# Altium footprint library motor.PcbLib: 1 footprints
Each footprint in its own frame and in the unit in brackets; x right, y up, seen from the top. Pads: shape width x height; smd on the part's side, far side on the other; paste and mask are expansions set on the pad; w line width, h text height; cw(c..) or ccw(c..) is an arc to the next point about the centre after c.
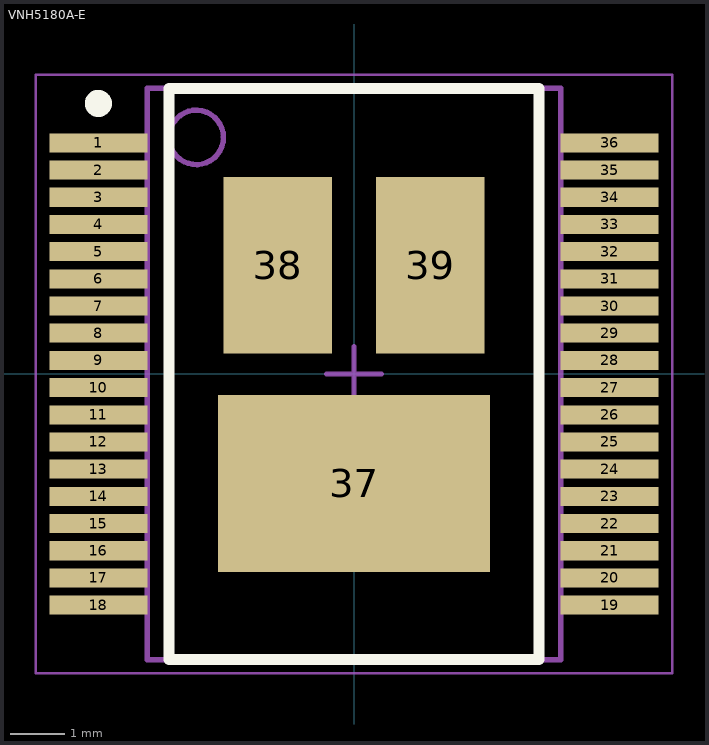
[diagram p0: the footprint, top view; thin cyan lines are the x and y axes]

## VNH5180A-E [mm] "SSOP, 36-Leads, Body 10.30x7.50mm, Pitch 0.50mm, Thermal Pad 7.40x5.20mm, IPC Medium Density"
height 2.47
pads (39):
  rect 1.8x0.35 smd: 1(-4.7,4.25) 2(-4.7,3.75) 3(-4.7,3.25) 4(-4.7,2.75) 5(-4.7,2.25) 6(-4.7,1.75) 7(-4.7,1.25) 8(-4.7,0.75) 9(-4.7,0.25) 10(-4.7,-0.25) 11(-4.7,-0.75) 12(-4.7,-1.25) 13(-4.7,-1.75) 14(-4.7,-2.25) 15(-4.7,-2.75) 16(-4.7,-3.25) 17(-4.7,-3.75) 18(-4.7,-4.25) 19(4.7,-4.25) 20(4.7,-3.75) 21(4.7,-3.25) 22(4.7,-2.75) 23(4.7,-2.25) 24(4.7,-1.75) 25(4.7,-1.25) 26(4.7,-0.75) 27(4.7,-0.25) 28(4.7,0.25) 29(4.7,0.75) 30(4.7,1.25) 31(4.7,1.75) 32(4.7,2.25) 33(4.7,2.75) 34(4.7,3.25) 35(4.7,3.75) 36(4.7,4.25)
  rect 5x3.25 smd: 37(0,-2.013)
  rect 2x3.25 smd: 38(-1.4,2) 39(1.4,2)
Top Overlay:
  circle w0.25: c-4.7,4.975 r0.125
  lines w0.2: -3.4,-5.25 3.4,-5.25 3.4,5.25 -3.4,5.25 -3.4,-5.25
Mechanical 13:
  circle w0.1: c-2.9,4.35 r0.5
  lines w0.1: -3.8,-5.25 3.8,-5.25 3.8,5.25 -3.8,5.25 -3.8,-5.25
Mechanical 15:
  lines w0.05: -5.85,-5.5 5.85,-5.5 5.85,5.5 -5.85,5.5 -5.85,-5.5
  lines w0.1: -0.5,0 0.5,0 ; 0,-0.5 0,0.5
3D body: height 2.47, standoff 0, extent -3.8,-5.25 3.8,5.25